# Altium schematic symbol library WRA_S-1WR2.SchLib: 1 symbol
Pins are listed as number, name and electrical type; pins without a type are passive.

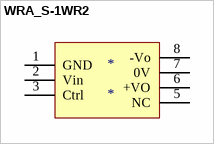
[diagram p0: symbol WRA_S-1WR2]

## WRA_S-1WR2
designator *
pins: 1 GND, 2 Vin, 3 Ctrl, 5 NC, 6 +VO, 7 0V, 8 -Vo